# Altium footprint library Lib.PcbLib: 35 footprints (part 3 of 3)
Each footprint in its own frame and in the unit in brackets; x right, y up, seen from the top. Pads: shape width x height; smd on the part's side, far side on the other; paste and mask are expansions set on the pad; w line width, h text height; cw(c..) or ccw(c..) is an arc to the next point about the centre after c.
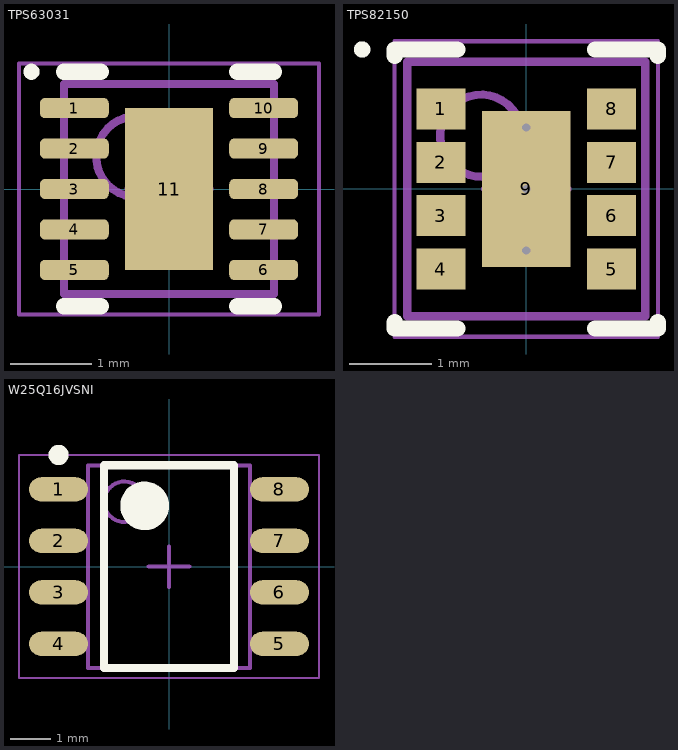
[diagram p2: the footprints below, top view; thin cyan lines are the x and y axes]

## TPS63031 [mm] "High Efficient Single Inductor Buck-Boost Converter with 1-A Switches"
height 0.8
pads (11):
  rrect50% 0.85x0.25 smd: 1(-1.17,1) 2(-1.17,0.5) 3(-1.17,0) 4(-1.17,-0.5) 5(-1.17,-1) 6(1.17,-1) 7(1.17,-0.5) 8(1.17,0) 9(1.17,0.5) 10(1.17,1)
  rect 1.09x2 smd: 11(0,0)
Top Overlay:
  circle w0.1: c-1.7,1.45 r0.05
  lines w0.2: -1.3,-1.45 -0.845,-1.45 ; -1.3,1.45 -0.845,1.45 ; 0.845,-1.45 1.3,-1.45 ; 0.845,1.45 1.3,1.45
Mechanical 13:
  circle w0.1: c-0.4,0.4 r0.5
  lines w0.1: -1.3,-1.3 -1.3,1.3 1.3,1.3 1.3,-1.3 -1.3,-1.3
Mechanical 15:
  lines w0.05: -1.855,-1.55 -1.855,1.55 1.855,1.55 1.855,-1.55 -1.855,-1.55
  lines w0.1: -0.5,0 0.5,0 ; 0,-0.5 0,0.5
3D body: height 0.8, standoff 0.05, extent -1.3,-1.3 1.3,1.3

## TPS82150 [mm] "PSON, 8-Leads, Body 3,00x2,80mm, Pitch 0,65mm, Thermal Pad 1,90x1,08mm, IPC Medium Density"
height 1.53
pads (9):
  rect 0.6x0.5 smd: 1(-1.04,0.975) 2(-1.04,0.325) 3(-1.04,-0.325) 4(-1.04,-0.975) 5(1.04,-0.975) 6(1.04,-0.325) 7(1.04,0.325) 8(1.04,0.975)
  rect 1.08x1.9 smd: 9(0,0)
via 0,0.75 diameter 0.2 hole 0.1
via 0,-0.75 diameter 0.2 hole 0.1
via 0,0 diameter 0.2 hole 0.1
Top Overlay:
  circle w0.1: c-2,1.7 r0.05
  lines w0.2: -1.6,-1.625 -1.6,-1.7 -0.84,-1.7 ; -1.6,1.625 -1.6,1.7 -0.84,1.7 ; 0.84,-1.7 1.6,-1.7 1.6,-1.625 ; 0.84,1.7 1.6,1.7 1.6,1.625
Mechanical 13:
  circle w0.1: c-0.55,0.65 r0.5
  lines w0.1: -1.45,-1.55 -1.45,1.55 1.45,1.55 1.45,-1.55 -1.45,-1.55
Mechanical 15:
  lines w0.05: -1.605,-1.8 -1.605,1.8 1.605,1.8 1.605,-1.8 -1.605,-1.8
  lines w0.1: -0.5,0 0.5,0 ; 0,-0.5 0,0.5
3D body: height 1.53, standoff 0.08, extent -1.45,-1.55 1.45,1.55

## W25Q16JVSNI [mm] "16M-bit, 2.7V-3.6V SOIC 150-mil"
height 1.35
pads (8):
  oval 1.45x0.6 smd: 1(-2.725,1.905) 2(-2.725,0.635) 3(-2.725,-0.635) 4(-2.725,-1.905) 5(2.725,-1.905) 6(2.725,-0.635) 7(2.725,0.635) 8(2.725,1.905)
Top Overlay:
  circle w0.25: c-2.725,2.755 r0.125
  circle w0.6: c-0.6,1.5 r0.3
  lines w0.2: -1.6,-2.5 -1.6,2.5 1.6,2.5 1.6,-2.5 -1.6,-2.5
Mechanical 13:
  circle w0.1: c-1.1,1.6 r0.5
  lines w0.1: -2,-2.5 -2,2.5 2,2.5 2,-2.5 -2,-2.5
Mechanical 15:
  lines w0.05: -3.7,-2.75 -3.7,2.75 3.7,2.75 3.7,-2.75 -3.7,-2.75
  lines w0.1: -0.5,0 0.5,0 ; 0,-0.5 0,0.5
3D body: height 1.35, standoff 0.1, extent -2,-2.5 2,2.5